# EAGLE library part PIC18F4XK50 (library GadgetFactory_v1)
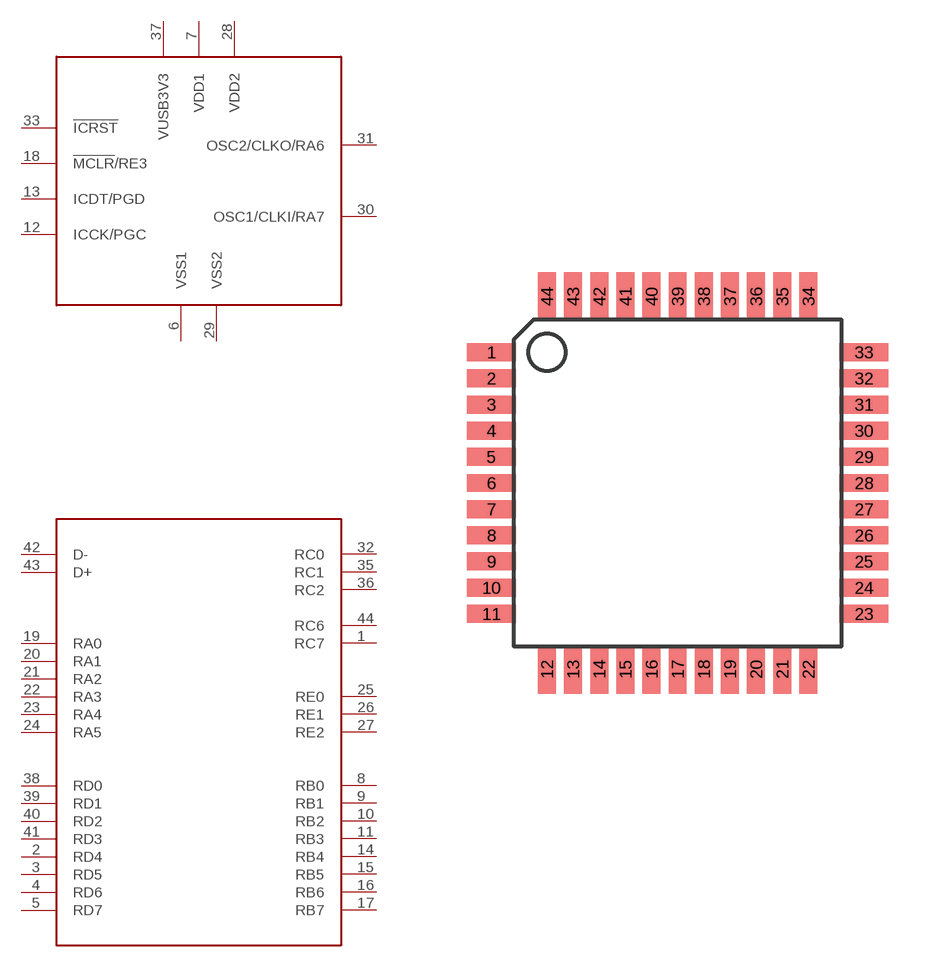
[diagram p46: symbol with the pads of TQFP44; footprint TQFP44]

Designator prefix U; gates PWR=PIC18F4XK50_PWR IO=PIC18F4XK50_IO

## PIC18F4XK50PT  [TQFP44]
1  IO:RC7
2  IO:RD4
3  IO:RD5
4  IO:RD6
5  IO:RD7
6  PWR:VSS1
7  PWR:VDD1
8  IO:RB0
9  IO:RB1
10  IO:RB2
11  IO:RB3
12  PWR:ICCK/PGC
13  PWR:ICDT/PGD
14  IO:RB4
15  IO:RB5
16  IO:RB6
17  IO:RB7
18  PWR:!MCLR!/RE3
19  IO:RA0
20  IO:RA1
21  IO:RA2
22  IO:RA3
23  IO:RA4
24  IO:RA5
25  IO:RE0
26  IO:RE1
27  IO:RE2
28  PWR:VDD2
29  PWR:VSS2
30  PWR:OSC1/CLKI/RA7
31  PWR:OSC2/CLKO/RA6
32  IO:RC0
33  PWR:!ICRST  in
34  PWR:NC  nc
35  IO:RC1
36  IO:RC2
37  PWR:VUSB3V3
38  IO:RD0
39  IO:RD1
40  IO:RD2
41  IO:RD3
42  IO:D-
43  IO:D+
44  IO:RC6

## Footprint TQFP44 (pad centres in mm)
smd 1.5 x 0.55: 1 -5.7,4; 2 -5.7,3.2; 3 -5.7,2.4; 4 -5.7,1.6; 5 -5.7,0.8; 6 -5.7,0; 7 -5.7,-0.8; 8 -5.7,-1.6; 9 -5.7,-2.4; 10 -5.7,-3.2; 11 -5.7,-4; 23 5.7,-4; 24 5.7,-3.2; 25 5.7,-2.4; 26 5.7,-1.6; 27 5.7,-0.8; 28 5.7,0; 29 5.7,0.8; 30 5.7,1.6; 31 5.7,2.4; 32 5.7,3.2; 33 5.7,4
smd 0.55 x 1.5: 12 -4,-5.7; 13 -3.2,-5.7; 14 -2.4,-5.7; 15 -1.6,-5.7; 16 -0.8,-5.7; 17 0,-5.7; 18 0.8,-5.7; 19 1.6,-5.7; 20 2.4,-5.7; 21 3.2,-5.7; 22 4,-5.7; 34 4,5.7; 35 3.2,5.7; 36 2.4,5.7; 37 1.6,5.7; 38 0.8,5.7; 39 0,5.7; 40 -0.8,5.7; 41 -1.6,5.7; 42 -2.4,5.7; 43 -3.2,5.7; 44 -4,5.7